# Altium schematic symbol library SOLAR_CELL.SchLib: 1 symbol
Pins are listed as number, name and electrical type; pins without a type are passive.

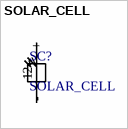
[diagram p0: symbol SOLAR_CELL]

## SOLAR_CELL
designator SC?
Solar cell symbol
pins: 1 + (power), 2 - (power)